# Altium schematic symbol library Schlib1.SchLib: 1 symbol
Pins are listed as number, name and electrical type; pins without a type are passive.

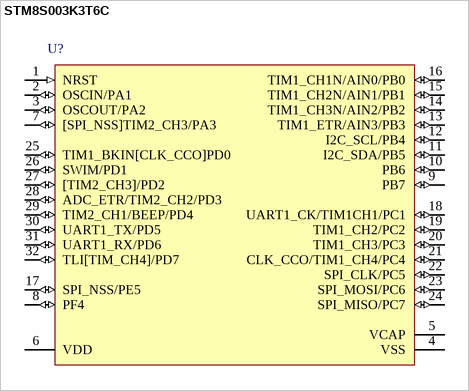
[diagram p0: symbol STM8S003K3T6C]

## STM8S003K3T6C
designator U?
STM8S ARM-based EnergyLite 8-bit MCU, 8 kB Flash, 1.5 kB Internal RAM, -40 to +85°C Temperature, 32-pin LQFP, Tray; PackageVersion: 2010; PackageReference: LQFP32; PackageDescription: 32-Pin Low Profile Quad Flat Pack, 7 x 7 mm Body, 0.8 mm Pitch; ComponentLink1Description: Manufacturer URL; ComponentLink1URL: http://www.st.com/; ComponentLink2Description: STM8S003 Datasheet; ComponentLink2URL: http://www.st.com/internet/com/TECHNICAL_RESOURCES/TECHNICAL_LITERATURE/DATASHEET/CD00220591.pdf; ComponentLink3Description: STM8S Family Web Page; ComponentLink3URL: http://www.st.com/internet/mcu/subclass/1381.jsp
footprint LQFP32_N (Manufacturer "STMicroelectronics" not found)
footprint LQFP32_L (Thin QFP, 32-Leads, Body 7x7mm, Pitch 0.8mm, IPC High Density)
footprint LQFP32_M (Thin QFP, 32-Leads, Body 7x7mm, Pitch 0.8mm, IPC Low Density)
footprint LQFP32_N (Thin QFP, 32-Leads, Body 7x7mm, Pitch 0.8mm, IPC Medium Density)
pins: 1 NRST (in), 2 OSCIN/PA1 (io), 3 OSCOUT/PA2 (io), 4 VSS (power), 5 VCAP (power), 6 VDD (power), 7 [SPI_NSS]TIM2_CH3/PA3 (io), 8 PF4 (io), 9 PB7 (io), 10 PB6 (io), 11 I2C_SDA/PB5 (io), 12 I2C_SCL/PB4 (io), 13 TIM1_ETR/AIN3/PB3 (io), 14 TIM1_CH3N/AIN2/PB2 (io), 15 TIM1_CH2N/AIN1/PB1 (io), 16 TIM1_CH1N/AIN0/PB0 (io), 17 SPI_NSS/PE5 (io), 18 UART1_CK/TIM1CH1/PC1 (io), 19 TIM1_CH2/PC2 (io), 20 TIM1_CH3/PC3 (io), 21 CLK_CCO/TIM1_CH4/PC4 (io), 22 SPI_CLK/PC5 (io), 23 SPI_MOSI/PC6 (io), 24 SPI_MISO/PC7 (io), 25 TIM1_BKIN[CLK_CCO]PD0 (io), 26 SWIM/PD1 (io), 27 [TIM2_CH3]/PD2 (io), 28 ADC_ETR/TIM2_CH2/PD3 (io), 29 TIM2_CH1/BEEP/PD4 (io), 30 UART1_TX/PD5 (io), 31 UART1_RX/PD6 (io), 32 TLI[TIM_CH4]/PD7 (io)